# Altium integrated library Motor.IntLib: 1 symbol
Pins are listed as number, name and electrical type; pins without a type are passive.

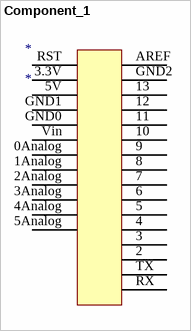
[diagram p0: symbol Component_1]

## Component_1
designator *
footprint PCBComponent_1
pins: 0Analog, 1Analog, 2, 2Analog, 3, 3.3V, 3Analog, 4, 4Analog, 5, 5Analog, 5V, 6, 7, 8, 9, 10, 11, 12, 13, AREF, GND0, GND1, GND2, RST, RX, TX, Vin